# Altium footprint library PANASONIC CAP ELECTROLYTIC.PcbLib: 1 footprints
Each footprint in its own frame and in the unit in brackets; x right, y up, seen from the top. Pads: shape width x height; smd on the part's side, far side on the other; paste and mask are expansions set on the pad; w line width, h text height; cw(c..) or ccw(c..) is an arc to the next point about the centre after c.
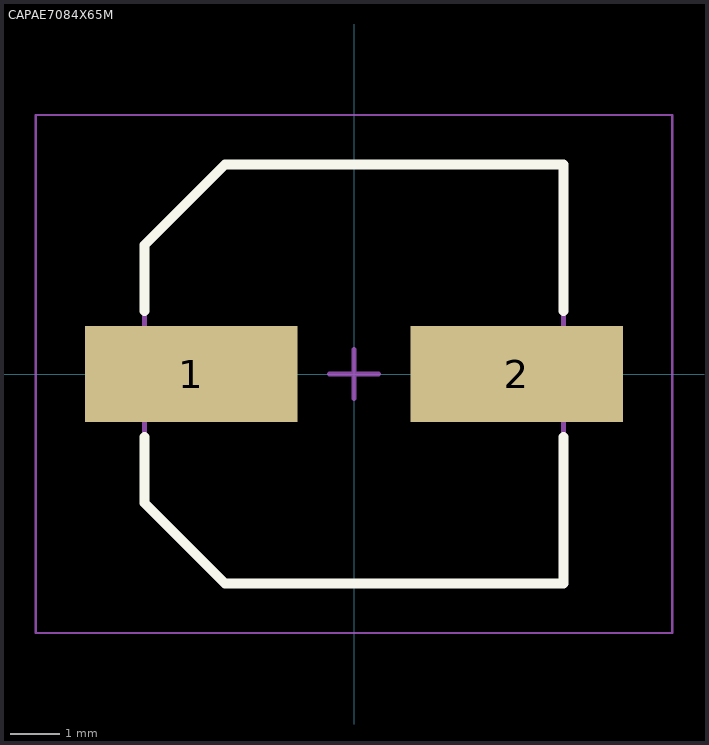
[diagram p0: the footprint, top view; thin cyan lines are the x and y axes]

## CAPAE7084X65M [mm] "Aluminum Electrolytic Capacitor, Body 8,40x8,40x6,50mm, IPC Low Density"
height 6.5
pads (2):
  rect 4.3x1.95 smd: 1(-3.3,0) 2(3.3,0)
Top Overlay:
  lines w0.2: -4.25,-1.275 -4.25,-2.613 -2.613,-4.25 4.25,-4.25 4.25,-1.275 ; -4.25,1.275 -4.25,2.612 -2.613,4.25 4.25,4.25 4.25,1.275
Mechanical 13:
  lines w0.1: -4.25,-2.613 -4.25,2.612 -2.613,4.25 4.25,4.25 4.25,-4.25 -2.613,-4.25 -4.25,-2.613
Mechanical 15:
  lines w0.05: -6.45,-5.25 6.45,-5.25 6.45,5.25 -6.45,5.25 -6.45,-5.25
  lines w0.1: -0.5,0 0.5,0 ; 0,-0.5 0,0.5
3D body: height 6.5, standoff 0, extent -4.25,-4.25 4.25,4.25
3D body: height 2.17, standoff 0, extent -4.25,-4.25 4.25,4.25